# Altium schematic symbol library SCH - POWER - LINEAR VREG - TI TPS79501-Q1_DRB_8.SchLib: 1 symbol
Pins are listed as number, name and electrical type; pins without a type are passive.

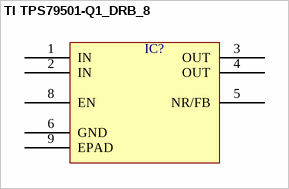
[diagram p0: symbol TI TPS79501-Q1_DRB_8]

## TI TPS79501-Q1_DRB_8
designator IC?  (value not drawn)
pins: 1 IN, 2 IN, 3 OUT, 4 OUT, 5 NR/FB, 6 GND, 8 EN, 9 EPAD